# Altium footprint library Jst Pın.PcbLib: 12 footprints
Each footprint in its own frame and in the unit in brackets; x right, y up, seen from the top. Pads: shape width x height; smd on the part's side, far side on the other; paste and mask are expansions set on the pad; w line width, h text height; cw(c..) or ccw(c..) is an arc to the next point about the centre after c.
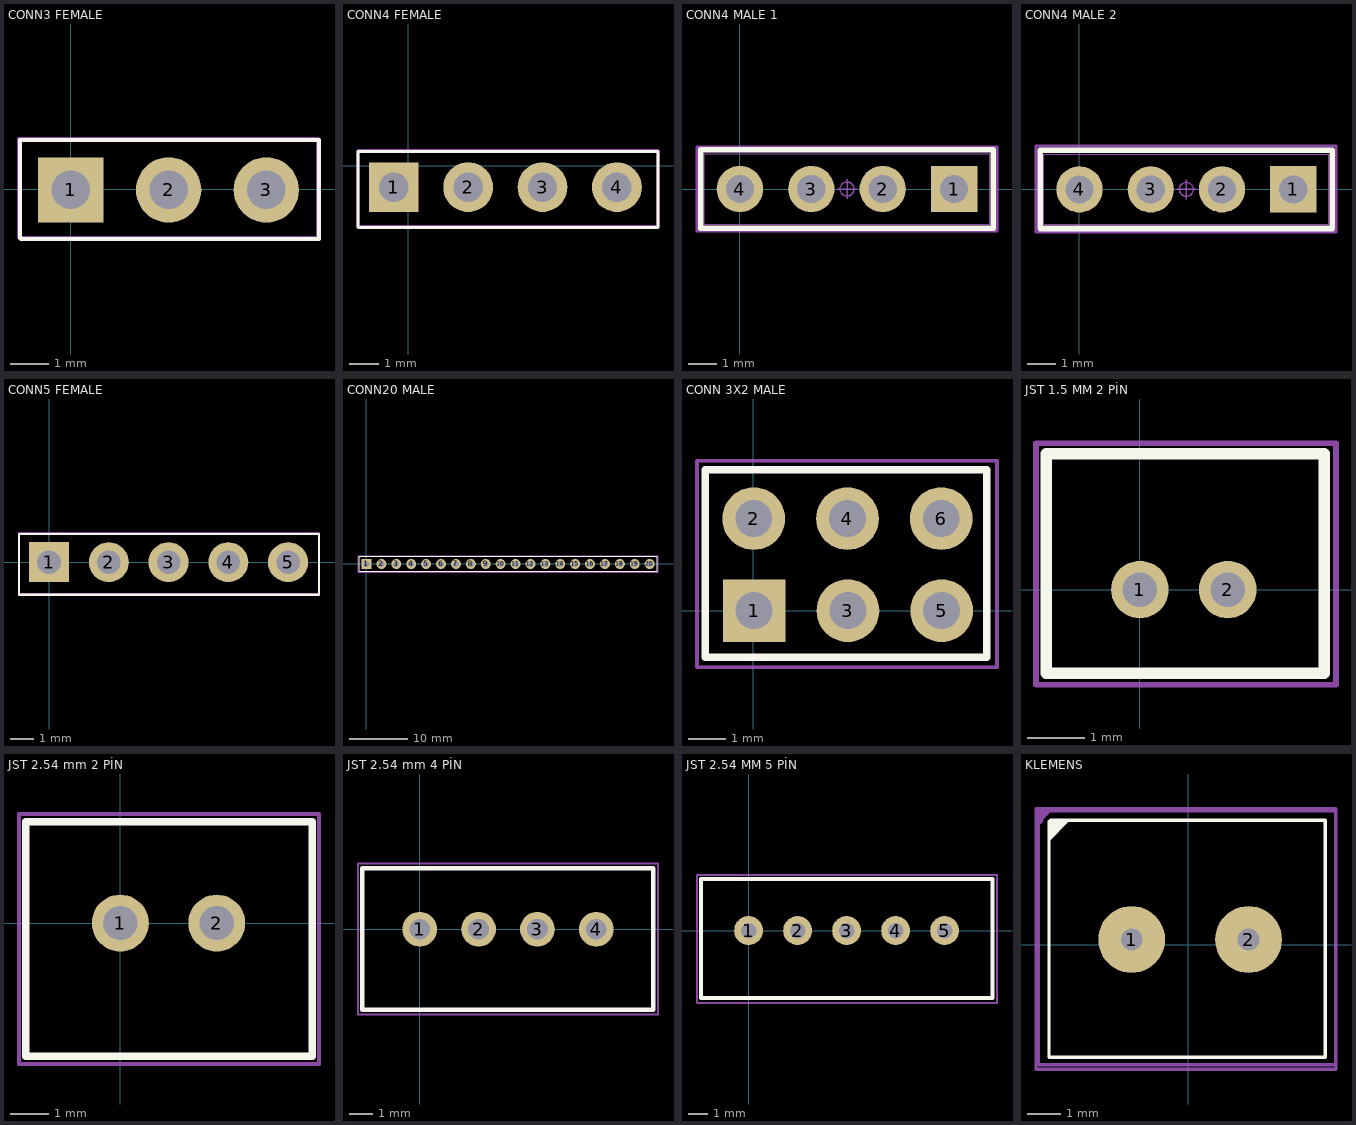
[diagram p0: the footprints below, top view; thin cyan lines are the x and y axes]

## CONN3 FEMALE [mm] "3 PIN 2.54MM"
pads (3):
  rect 1.7x1.7 hole 1 mask+0.05: 1(0,-0.025)
  round 1.7 hole 1 mask+0.05: 2(2.54,-0.025) 3(5.08,-0.025)
Top Overlay:
  lines w0.1: -1.325,-1.275 -1.3,-1.3 6.45,-1.3 6.45,1.275 -1.325,1.275 -1.325,-1.275
Mechanical 3:
  lines w0.1: -1.35,-1.25 -1.35,1.3 6.425,1.3 6.425,-1.275 -1.325,-1.275 -1.35,-1.25
3D body "User Library-ZL262-3SG.step": height 9.1, standoff -2.45, extent -1.26,-1.275 6.36,1.225

## CONN4 FEMALE [mm] "4 PIN 2.54MM"
pads (4):
  rect 1.7x1.7 hole 1 mask+0.05: 1(-0.5,-0.725)
  round 1.7 hole 1 mask+0.05: 2(2.04,-0.725) 3(4.58,-0.725) 4(7.12,-0.725)
Top Overlay:
  lines w0.1: -1.725,-2.1 8.525,-2.1 8.525,0.5 -1.725,0.5 -1.725,-2.1
Mechanical 3:
  lines w0.1: -1.725,-2.075 -1.725,0.525 8.525,0.525 8.525,-2.075 -1.725,-2.075
3D body "User Library-ZL262-4SG.step": height 9.1, standoff -2.45, extent -1.68,-2.05 8.48,0.45

## CONN4 MALE 1 [mm] "4 PIN 2.54MM"
pads (4):
  rect 1.65x1.65 hole 1 mask+0: 1(7.62,0)
  round 1.65 hole 1 mask+0: 2(5.08,0) 3(2.54,0) 4(0,0)
Top Overlay:
  lines w0.2: -1.397,-1.397 -1.397,1.397 9.017,1.397 9.017,-1.397 -1.397,-1.397
Mechanical 13:
  lines w0.025: -1.27,-1.25 -1.27,1.25 8.89,1.25 8.89,-1.25 -1.27,-1.25
Mechanical 15:
  circle w0.05: c3.81,0 r0.25
  lines w0.05: 3.46,0 4.16,0 ; 3.81,-0.35 3.81,0.35
  lines w0.1: -1.524,-1.499 -1.524,1.499 9.144,1.499 9.144,-1.499 -1.524,-1.499
3D body "4-Pin Header - Male - 2.54mm.step": height 8.89, standoff -3.05, extent -1.316,-1.288 8.844,1.252

## CONN4 MALE 2 [mm] "4 PIN 2.54MM"
pads (4):
  rect 1.65x1.65 hole 1 mask+0: 1(7.62,0)
  round 1.65 hole 1 mask+0: 2(5.08,0) 3(2.54,0) 4(0,0)
Top Overlay:
  lines w0.2: -1.397,-1.397 9.017,-1.397 9.017,1.397 -1.397,1.397 -1.397,-1.397
Mechanical 13:
  lines w0.025: -1.27,-1.25 8.89,-1.25 8.89,1.25 -1.27,1.25 -1.27,-1.25
Mechanical 15:
  circle w0.05: c3.81,0 r0.25
  lines w0.05: 3.46,0 4.16,0 ; 3.81,-0.35 3.81,0.35
  lines w0.1: -1.549,-1.524 9.144,-1.524 9.144,1.549 -1.549,1.549 -1.549,-1.524
3D body "4Pin.step": height 4.4, standoff -2.9, extent -1.27,-1.338 8.89,7.112

## CONN5 FEMALE [mm] "5 PIN 2.54MM"
pads (5):
  rect 1.7x1.7 hole 1 mask+0.05: 1(0,0)
  round 1.7 hole 1 mask+0.05: 2(2.54,0) 3(5.08,0) 4(7.62,0) 5(10.16,0)
Top Overlay:
  lines w0.1: -1.275,-1.375 11.475,-1.375 11.475,1.2 -1.275,1.2 -1.275,-1.375
Mechanical 3:
  lines w0.1: -1.275,-1.35 11.475,-1.35 11.475,1.225 -1.275,1.225 -1.275,-1.35
3D body "User Library-ZL262-5SG (1).step": height 9.1, standoff -2.45, extent -1.25,-1.3 11.45,1.2

## CONN20 MALE [mm] "20 PIN 2.54MM"
pads (20):
  rect 1.7x1.7 hole 1 mask+0.05: 1(0,0)
  round 1.7 hole 1 mask+0.05: 2(2.54,0) 3(5.08,0) 4(7.62,0) 5(10.16,0) 6(12.7,0) 7(15.24,0) 8(17.78,0) 9(20.32,0) 10(22.86,0) 11(25.4,0) 12(27.94,0) 13(30.48,0) 14(33.02,0) 15(35.56,0) 16(38.1,0) 17(40.64,0) 18(43.18,0) 19(45.72,0) 20(48.26,0)
Top Overlay:
  lines w0.2: -1.27,-1.27 -1.27,1.27 49.53,1.27 49.53,-1.27 -1.27,-1.27
Mechanical 15:
  lines w0.1: -1.448,-1.422 -1.448,1.397 49.682,1.397 49.682,-1.422 -1.448,-1.422
3D body "20-Pin Header - Male - 2.54mm.step": height 8.89, standoff -3.05, extent -1.249,-1.229 49.551,1.311

## CONN 3X2 MALE [mm] "3X2 PIN 2.54MM"
pads (6):
  rect 1.7x1.7 hole 1 mask+0.05: 1(0.025,0.006)
  round 1.7 hole 1 mask+0.05: 2(0.013,2.499) 3(2.565,0.006) 4(2.553,2.499) 5(5.105,0.006) 6(5.093,2.499)
Top Overlay:
  lines w0.2: -1.297,-1.256 6.323,-1.256 6.323,3.824 -1.297,3.824 -1.297,-1.256
Mechanical 15:
  lines w0.1: -1.524,-1.524 -1.524,4.064 6.604,4.064 6.604,-1.524 -1.524,-1.524
3D body "User Library-HEADER, 2X3, 2_54MM X 2_54MM PITCH, VERT, TH.STEP": height 8.38, standoff -3.81, extent -1.297,-1.256 6.323,3.824

## JST 1.5 MM 2 PİN [mm]
pads (2):
  round 1 hole 0.6 mask+0.102: 1(0,0) 2(1.525,0)
Top Overlay:
  lines w0.2: -1.626,-1.448 3.2,-1.448 3.2,2.362 -1.626,2.362 -1.626,-1.448
Mechanical 3:
  lines w0.1: -1.803,-1.651 3.404,-1.651 3.404,2.54 -1.803,2.54 -1.803,-1.651
3D body "jst-1.5mm-2P.STEP": height 4.8, standoff -2.4, extent -1.475,-1.3 3.025,2.2

## JST 2.54 mm 2 PİN [mm]
pads (2):
  round 1.5 hole 0.9 mask+0.102: 1(0,0) 2(2.54,0)
Top Overlay:
  lines w0.2: -2.489,-3.505 -2.489,2.667 5.055,2.667 5.055,-3.505 -2.489,-3.505
Mechanical 3:
  lines w0.1: -2.667,-3.708 -2.667,2.87 5.232,2.87 5.232,-3.708 -2.667,-3.708
3D body "JST - XH - Thru (V) - 2Pin - 2.54mm.stp": height 7.21, standoff -3, extent -2.337,-3.353 4.877,2.489

## JST 2.54 mm 4 PİN [mm]
pads (4):
  round 1.5 hole 0.9 mask+0.102: 1(0,0) 2(2.54,0) 3(5.08,0) 4(7.62,0)
Top Overlay:
  lines w0.2: -2.489,-3.48 10.084,-3.48 10.084,2.642 -2.489,2.642 -2.489,-3.48
Mechanical 3:
  lines w0.1: -2.667,-3.683 10.287,-3.683 10.287,2.845 -2.667,2.845 -2.667,-3.683
3D body "JST - XH - Thru (V) - 4Pin - 2.54mm.stp": height 7.21, standoff -3, extent -2.347,-3.342 9.947,2.5

## JST 2.54 MM 5 PİN [mm]
pads (5):
  round 1.5 hole 0.8: 1(0,0) 2(2.54,0) 3(5.08,0) 4(7.62,0) 5(10.16,0)
Top Overlay:
  lines w0.2: -2.475,-3.5 -2.475,2.675 12.65,2.675 12.65,-3.5 -2.475,-3.5
Mechanical 3:
  lines w0.1: -2.675,-3.75 -2.675,2.875 12.875,2.875 12.875,-3.75 -2.675,-3.75
3D body "JST - XH - Thru (V) - 5Pin - 2.54mm.stp": height 7.21, standoff -3, extent -2.337,-3.302 12.497,2.54

## KLEMENS [mm] "2 PIN"
pads (2):
  round 2 hole 0.65: 1(-1.7,0.15) 2(1.8,0.15)
Top Overlay:
  region: -3.594,3.671 -4.167,3.099 -4.167,3.633 -4.033,3.767 -3.654,3.767
  lines w0.1: -4.175,-3.375 -4.175,3.675 -4.125,3.725 4.1,3.725 4.1,-3.375 -4.175,-3.375
Mechanical 3:
  region: -4.348,4.06 -4.564,3.844 -4.564,4.061 -4.562,4.06 -4.348,4.06 -4.348,3.696 -4.562,3.482 -4.562,4.06 -4.348,4.06 -4.341,4.053 -4.182,4.053 -4.182,3.909 -4.385,3.707
  lines w0.1: -4.562,-3.722 -4.562,4.06 -4.348,4.06 4.417,4.06 4.417,-3.731 -4.553,-3.731 -4.562,-3.722
Mechanical 15:
  region: -4.1,4 -4.5,3.6 -4.5,4
  lines w0.1: -4.5,-3.6 4.4,-3.6 4.4,4 -4.5,4 -4.5,-3.6
3D body "terminal_blocks_a-tb350-te02.stp": height 8.9, standoff -3.29, extent -4,-3.25 3.994,3.75